# Altium schematic symbol library CHIP_SMD.SchLib: 1 symbol
Pins are listed as number, name and electrical type; pins without a type are passive.

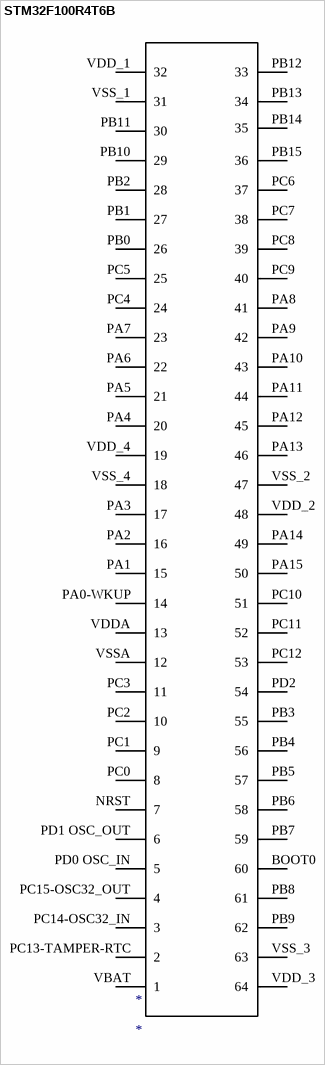
[diagram p0: symbol STM32F100R4T6B]

## STM32F100R4T6B
designator *
pins: BOOT0 60, NRST 7, PA0-WKUP 14, PA1 15, PA2 16, PA3 17, PA4 20, PA5 21, PA6 22, PA7 23, PA8 41, PA9 42, PA10 43, PA11 44, PA12 45, PA13 46, PA14 49, PA15 50, PB0 26, PB1 27, PB2 28, PB3 55, PB4 56, PB5 57, PB6 58, PB7 59, PB8 61, PB9 62, PB10 29, PB11 30, PB12 33, PB13 34, PB14 35, PB15 36, PC0 8, PC1 9, PC2 10, PC3 11, PC4 24, PC5 25, PC6 37, PC7 38, PC8 39, PC9 40, PC10 51, PC11 52, PC12 53, PC13-TAMPER-RTC 2, PC14-OSC32_IN 3, PC15-OSC32_OUT 4, PD0 OSC_IN 5, PD1 OSC_OUT 6, PD2 54, VBAT 1, VDD_1 32, VDD_2 48, VDD_3 64, VDD_4 19, VDDA 13, VSS_1 31, VSS_2 47, VSS_3 63, VSS_4 18, VSSA 12